# EAGLE library part MAX7301 (library DAC)
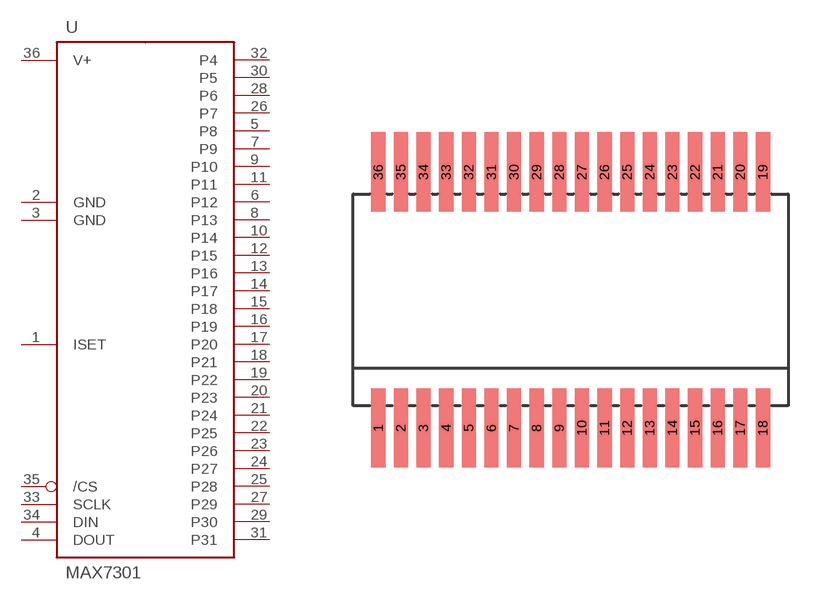
[diagram p45: symbol with the pads of SSOP36; footprint SSOP36]

Designator prefix U

## MAX7301AAX  [SSOP36]
1  ISET  in
2  GND  sup
3  GND  sup
4  DOUT
5  P8
6  P12
7  P9
8  P13
9  P10
10  P14
11  P11
12  P15
13  P16
14  P17
15  P18
16  P19
17  P20
18  P21
19  P22
20  P23
21  P24
22  P25
23  P26
24  P27
25  P28
26  P7
27  P29
28  P6
29  P30
30  P5
31  P31
32  P4
33  SCLK
34  DIN
35  /CS
36  V+  pwr

## Footprint SSOP36 (pad centres in mm)
smd 0.5 x 2.8: 1 -6.8,-4.525; 2 -6,-4.525; 3 -5.2,-4.525; 4 -4.4,-4.525; 5 -3.6,-4.525; 6 -2.8,-4.525; 7 -2,-4.525; 8 -1.2,-4.525; 9 -0.4,-4.525; 10 0.4,-4.525; 11 1.2,-4.525; 12 2,-4.525; 13 2.8,-4.525; 14 3.6,-4.525; 15 4.4,-4.525; 16 5.2,-4.525; 17 6,-4.525; 18 6.8,-4.525; 19 6.8,4.525; 20 6,4.525; 21 5.2,4.525; 22 4.4,4.525; 23 3.6,4.525; 24 2.8,4.525; 25 2,4.525; 26 1.2,4.525; 27 0.4,4.525; 28 -0.4,4.525; 29 -1.2,4.525; 30 -2,4.525; 31 -2.8,4.525; 32 -3.6,4.525; 33 -4.4,4.525; 34 -5.2,4.525; 35 -6,4.525; 36 -6.8,4.525